# Altium footprint library 4.0_30P封装库.PcbLib: 6 footprints
Each footprint in its own frame and in the unit in brackets; x right, y up, seen from the top. Pads: shape width x height; smd on the part's side, far side on the other; paste and mask are expansions set on the pad; w line width, h text height; cw(c..) or ccw(c..) is an arc to the next point about the centre after c.
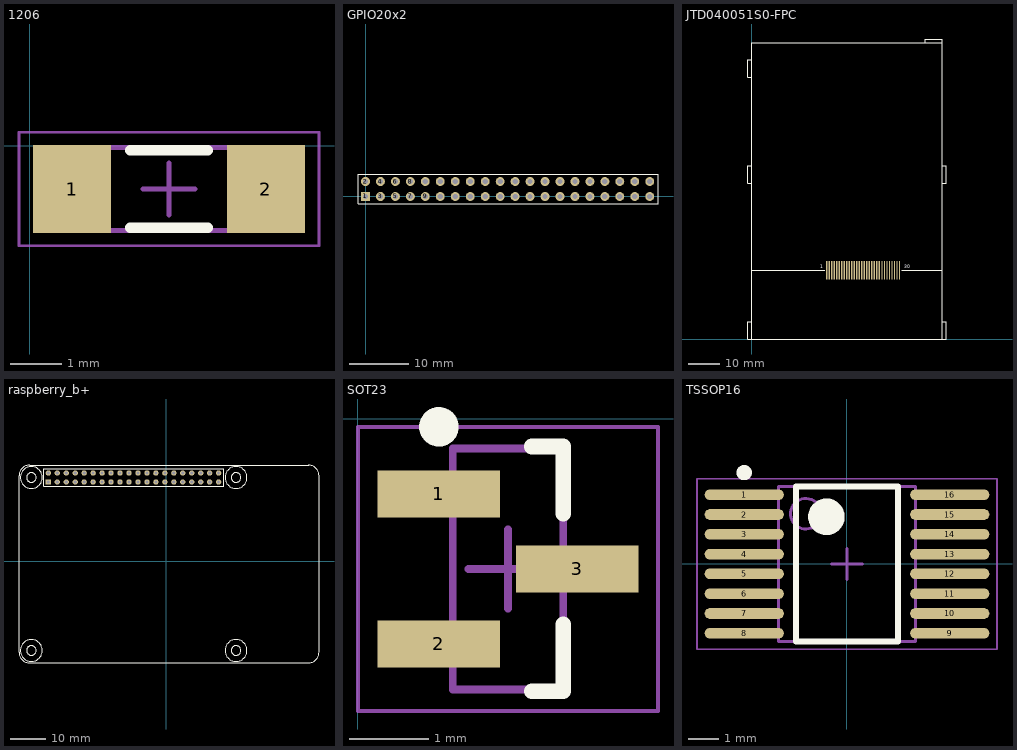
[diagram p0: the footprints below, top view; thin cyan lines are the x and y axes]

## 1206 [mm]
pads (2):
  rect 1.5x1.7 smd: 1(0.817,-0.838) 2(4.567,-0.838)
Top Overlay:
  lines w0.2: 1.942,-1.588 3.442,-1.588 ; 1.942,-0.088 3.442,-0.088
Mechanical 13:
  lines w0.1: 1.092,-1.638 4.292,-1.638 4.292,-0.038 1.092,-0.038 1.092,-1.638
Mechanical 15:
  lines w0.05: -0.208,-1.938 5.592,-1.938 5.592,0.262 -0.208,0.262 -0.208,-1.938
  lines w0.1: 2.192,-0.838 3.192,-0.838 ; 2.692,-1.338 2.692,-0.338
3D body: height 1.1, standoff 0, extent 3.792,-1.638 4.292,-0.038
3D body: height 1.1, standoff 0, extent 1.092,-1.638 1.592,-0.038
3D body: height 1.1, standoff 0, extent 1.592,-1.638 3.792,-0.038

## GPIO20x2 [mm]
pads (40):
  rect 1.5x1.5 hole 0.9: 1(-0.075,-0.002)
  round 1.5 hole 0.9: 2(-0.075,2.538) 3(2.465,-0.002) 4(2.465,2.538) 5(5.005,-0.002) 6(5.005,2.538) 7(7.545,-0.002) 8(7.545,2.538) 9(10.085,-0.002) 10(10.085,2.538) 11(12.625,-0.002) 12(12.625,2.538) 13(15.165,-0.002) 14(15.165,2.538) 15(17.705,-0.002) 16(17.705,2.538) 17(20.245,-0.002) 18(20.245,2.538) 19(22.785,-0.002) 20(22.785,2.538) 21(25.325,-0.002) 22(25.325,2.538) 23(27.865,-0.002) 24(27.865,2.538) 25(30.405,-0.002) 26(30.405,2.538) 27(32.945,-0.002) 28(32.945,2.538) 29(35.485,-0.002) 30(35.485,2.538) 31(38.025,-0.002) 32(38.025,2.538) 33(40.565,-0.002) 34(40.565,2.538) 35(43.105,-0.002) 36(43.105,2.538) 37(45.645,-0.002) 38(45.645,2.538) 39(48.185,-0.002) 40(48.185,2.538)
Top Overlay:
  lines w0.2: -1.345,-1.272 -1.345,3.808 49.582,3.808 49.582,-1.272 -1.345,-1.272

## JTD040051S0-FPC [mm]
pads (30):
  rect 0.4x6 smd: 1(23.916,21.902) 2(24.716,21.902) 3(25.516,21.902) 4(26.316,21.902) 5(27.116,21.902) 6(27.916,21.902) 7(28.716,21.902) 8(29.516,21.902) 9(30.316,21.902) 10(31.116,21.902) 11(31.916,21.902) 12(32.716,21.902) 13(33.516,21.902) 14(34.316,21.902) 15(35.116,21.902) 16(35.916,21.902) 17(36.716,21.902) 18(37.516,21.902) 19(38.316,21.902) 20(39.116,21.902) 21(39.916,21.902) 22(40.716,21.902) 23(41.516,21.902) 24(42.316,21.902) 25(43.116,21.902) 26(43.916,21.902) 27(44.716,21.902) 28(45.516,21.902) 29(46.316,21.902) 30(47.116,21.902)
Top Layer:
Top Overlay:
  lines w0.254: -1.27,55.143 -1.27,49.606 -0.127,49.606 ; -1.245,55.16 -0.127,55.16 ; -1.219,83.414 -1.219,88.951 ; -1.194,88.976 -0.076,88.976 ; -1.168,83.4 -0.025,83.4 ; 0,5.563 -1.118,5.563 -1.143,5.537 -1.143,0 0,0 ; 0,21.9 23.241,21.9 ; 47.854,21.9 60.706,21.9 ; 55.27,94.412 55.27,95.555 60.8,95.555 60.8,93.878 ; 60.8,5.563 62.078,5.563 62.078,0.025 ; 60.884,49.606 62.078,49.606 62.078,55.16 60.884,55.16 ; 62.052,0 60.8,0 ; 0,0 60.8,0 ; 0,0 0,94.4 60.8,94.4 60.8,0
  text "1" at 21.869,22.555 h1.02
  text "30" at 48.59,22.555 h1.02

## raspberry_b+ [mm]
pads (40):
  rect 1.5x1.5 hole 0.9: 1(-33.476,22.477)
  round 1.5 hole 0.9: 2(-33.476,25.017) 3(-30.936,22.477) 4(-30.936,25.017) 5(-28.396,22.477) 6(-28.396,25.017) 7(-25.856,22.477) 8(-25.856,25.017) 9(-23.316,22.477) 10(-23.316,25.017) 11(-20.776,22.477) 12(-20.776,25.017) 13(-18.236,22.477) 14(-18.236,25.017) 15(-15.696,22.477) 16(-15.696,25.017) 17(-13.156,22.477) 18(-13.156,25.017) 19(-10.616,22.477) 20(-10.616,25.017) 21(-8.076,22.477) 22(-8.076,25.017) 23(-5.536,22.477) 24(-5.536,25.017) 25(-2.996,22.477) 26(-2.996,25.017) 27(-0.456,22.477) 28(-0.456,25.017) 29(2.084,22.477) 30(2.084,25.017) 31(4.624,22.477) 32(4.624,25.017) 33(7.164,22.477) 34(7.164,25.017) 35(9.704,22.477) 36(9.704,25.017) 37(12.244,22.477) 38(12.244,25.017) 39(14.784,22.477) 40(14.784,25.017)
Top Overlay:
  circle w0.2: c19.717,-25.253 r1.375
  circle w0.2: c19.717,-25.253 r3.1
  circle w0.2: c19.717,23.747 r1.375
  circle w0.2: c19.717,23.747 r3.1
  circle w0.2: c-38.283,23.747 r3.1
  circle w0.2: c-38.283,23.747 r1.375
  circle w0.2: c-38.283,-25.253 r1.375
  circle w0.2: c-38.283,-25.253 r3.1
  lines w0.2: -34.746,21.207 -34.746,26.287 16.181,26.287 16.181,21.207 -34.746,21.207
  lines w0.254: -41.783,-25.806 -41.783,24.206 ; -41.783,-25.753 ccw(c-38.783,-25.753) -38.783,-28.753 ; -41.783,24.247 cw(c-38.783,24.247) -38.783,27.247 ; -38.837,-28.753 40.208,-28.753 ; -38.742,27.247 40.317,27.247 ; 40.217,-28.753 ccw(c40.217,-25.753) 43.217,-25.753 ; 40.217,27.247 cw(c40.217,24.247) 43.217,24.247 ; 43.217,-25.744 43.217,24.347

## SOT23 [mm]
pads (3):
  rect 1.55x0.6 smd: 1(1.03,-0.955) 2(1.03,-2.855) 3(2.78,-1.905)
Top Overlay:
  circle w0.25: c1.03,-0.105 r0.125
  lines w0.2: 2.205,-3.455 2.605,-3.455 2.605,-2.605 ; 2.205,-0.355 2.605,-0.355 2.605,-1.205
Mechanical 13:
  lines w0.1: 1.205,-3.43 1.205,-0.38 2.605,-0.38 2.605,-3.43 1.205,-3.43
Mechanical 15:
  lines w0.05: 0.005,-3.705 0.005,-0.105 3.805,-0.105 3.805,-3.705 0.005,-3.705
  lines w0.1: 1.405,-1.905 2.405,-1.905 ; 1.905,-2.405 1.905,-1.405
3D body: height 1.1, standoff 0.05, extent 1.205,-3.43 2.605,-0.38

## TSSOP16 [mm]
height 1.1
pads (16):
  oval 2.6x0.35 smd: 1(-3.375,2.275) 2(-3.375,1.625) 3(-3.375,0.975) 4(-3.375,0.325) 5(-3.375,-0.325) 6(-3.375,-0.975) 7(-3.375,-1.625) 8(-3.375,-2.275) 9(3.375,-2.275) 10(3.375,-1.625) 11(3.375,-0.975) 12(3.375,-0.325) 13(3.375,0.325) 14(3.375,0.975) 15(3.375,1.625) 16(3.375,2.275)
Top Overlay:
  circle w0.6: c-0.675,1.55 r0.3
  circle w0.25: c-3.375,3 r0.125
  lines w0.2: -1.675,-2.55 1.675,-2.55 1.675,2.55 -1.675,2.55 -1.675,-2.55
Mechanical 13:
  circle w0.1: c-1.35,1.65 r0.5
  lines w0.1: -2.25,-2.55 2.25,-2.55 2.25,2.55 -2.25,2.55 -2.25,-2.55
Mechanical 15:
  lines w0.05: -4.925,-2.8 4.925,-2.8 4.925,2.8 -4.925,2.8 -4.925,-2.8
  lines w0.1: -0.5,0 0.5,0 ; 0,-0.5 0,0.5
3D body: height 1.1, standoff 0.1, extent -2.25,-2.55 2.25,2.55